# Altium footprint library MyPro.PcbLib: 22 footprints (part 2 of 2)
Each footprint in its own frame and in the unit in brackets; x right, y up, seen from the top. Pads: shape width x height; smd on the part's side, far side on the other; paste and mask are expansions set on the pad; w line width, h text height; cw(c..) or ccw(c..) is an arc to the next point about the centre after c.
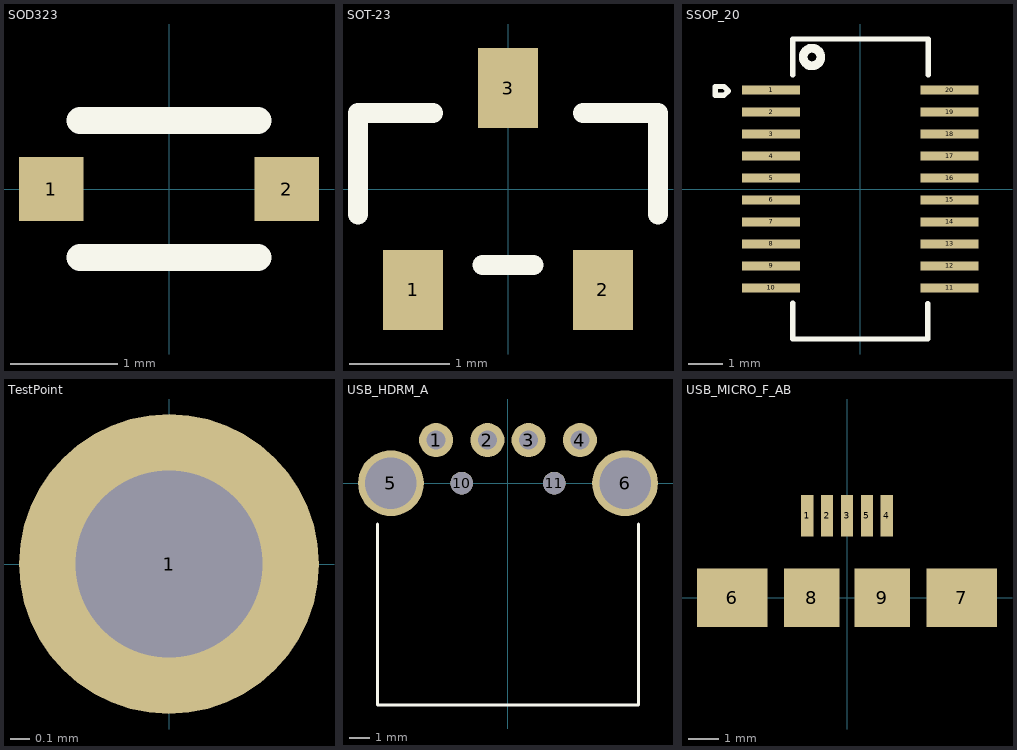
[diagram p1: the footprints below, top view; thin cyan lines are the x and y axes]

## SOD323 [mm]
pads (2):
  rect 0.6x0.6 smd: 1(-1.1,0) 2(1.1,0)
Top Overlay:
  lines w0.254: -0.83,-0.64 0.83,-0.64 ; -0.83,0.64 0.83,0.64
3D body "User Library-SOD323-1.step": height 1.1, standoff 0, extent -1.3,-0.675 1.3,0.675

## SOT-23 [mm]
pads (3):
  rect 0.6x0.8 smd: 1(-0.95,-1.01) 2(0.95,-1.01) 3(0,1.01)
Top Overlay:
  lines w0.2: -1.5,-0.254 -1.5,0.762 -0.75,0.762 ; -0.254,-0.762 0.254,-0.762 ; 0.75,0.762 1.5,0.762 1.5,-0.254
3D body "CircuitWorks-SOT-23.step": height 1.05, standoff -0.05, extent -1.5,-1.25 1.5,1.25

## SSOP_20 [mil] "USB to UART I.C."
pads (20):
  rect 66x10 smd: 1(-101.5,112.5) 2(-101.5,87.5) 3(-101.5,62.5) 4(-101.5,37.5) 5(-101.5,12.5) 6(-101.5,-12.5) 7(-101.5,-37.5) 8(-101.5,-62.5) 9(-101.5,-87.5) 10(-101.5,-112.5) 11(101.5,-112.5) 12(101.5,-87.5) 13(101.5,-62.5) 14(101.5,-37.5) 15(101.5,-12.5) 16(101.5,12.5) 17(101.5,37.5) 18(101.5,62.5) 19(101.5,87.5) 20(101.5,112.5)
Top Overlay:
  circle w10: c-55,150 r10
  lines w6: -77,-130 -77,-170.5 76.5,-170.5 76.5,-130.5 ; -77,130 -77,170.5 77,170.5 77,130 ; -165,106.5 -165,116.5 -155,116.5 -150,111.5 -155,106.5 ; -165,106.5 -155,106.5 ; -165,106.5 -155,106.5
3D body: height 140.16, standoff -309.43, extent -25,-5 -25,-5
3D body "User Library-SSOP 20 PIN-1.STEP": height 70.13, standoff -8.18, extent -155.5,-144.28 155.52,144.3

## TestPoint [mil]
pads (1):
  round 60 hole 37.4: 1(0,0)

## USB_HDRM_A [mm] "Header Male USB A type"
pads (8):
  round 1.656 hole 0.92: 1(-3.5,2.1) 2(-1,2.1) 3(1,2.1) 4(3.5,2.1)
  round 3.2 hole 2.5: 5(-5.7,0) 6(5.7,0)
  round 1.1 hole 1.1 unplated: 10(-2.25,0) 11(2.25,0)
Top Overlay:
  lines w0.152: -6.35,-2 -6.35,-10.795 6.35,-10.795 6.35,-2 ; -5.842,0 -5.842,1 ; 5.842,0 5.842,1
3D body: height 1.9, standoff 0, extent 0,-0.254 0,-0.254
3D body "56t4884_1903814-1.stp": height 7.76, standoff -3.66, extent -7.8,-10.698 7.8,3.302

## USB_MICRO_F_AB [mm]
pads (9):
  rect 0.4x1.35 smd: 1(-1.3,2.675) 2(-0.65,2.675) 3(0,2.675) 4(1.3,2.675) 5(0.65,2.675)
  rect 2.3x1.9 smd: 6(-3.75,0) 7(3.75,0)
  rect 1.8x1.9 smd: 8(-1.15,0) 9(1.15,0)
3D body "User Library-3067-47340001R-Rev_01.step": height 2.72, standoff -0.22, extent -4.1,-2.882 4.1,3.048